# EAGLE library part FXL4TD245 (library ON Semiconductor)
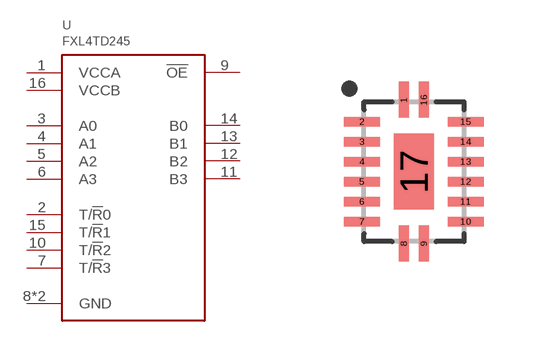
[diagram p1: symbol with the pads of DQFN16; footprint DQFN16]

Designator prefix U

## FXL4TD245BQX  [DQFN16]
1  VCCA
2  T/!R!0
3  A0
4  A1
5  A2
6  A3
7  T/!R!3
8  GND
9  !OE
10  T/!R!2
11  B3
12  B2
13  B1
14  B0
15  T/!R!1
16  VCCB
17  GND

## Footprint DQFN16 (pad centres in mm)
smd 0.24 x 0.9: 1 -0.25,1.8; 8 -0.25,-1.8; 9 0.25,-1.8; 16 0.25,1.8
smd 0.9 x 0.24: 2 -1.3,1.25; 3 -1.3,0.75; 4 -1.3,0.25; 5 -1.3,-0.25; 6 -1.3,-0.75; 7 -1.3,-1.25; 10 1.3,-1.25; 11 1.3,-0.75; 12 1.3,-0.25; 13 1.3,0.25; 14 1.3,0.75; 15 1.3,1.25
smd 1 x 1.9: 17 0,0